# EAGLE library part CY7C1059DV33 (library memory-sram)
Source: CYPRESS cy7c1059dv33_8.pdf
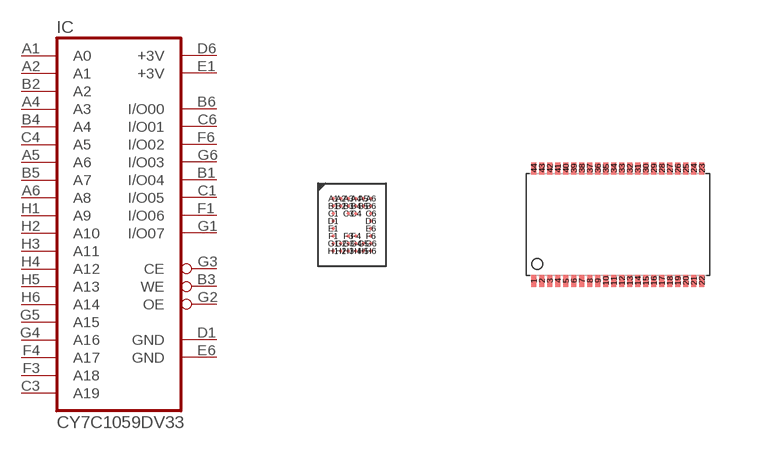
[diagram p2: symbol with the pads of FBGA36; footprints FBGA36, TSOPII-Z44]

Designator prefix IC

## CY7C1059DV33-10BAXI  [FBGA36]
A1  A0  in
A2  A1  in
A4  A3  in
A5  A6  in
A6  A8  in
B1  I/O04
B2  A2  in
B3  WE  in
B4  A4  in
B5  A7  in
B6  I/O00
C1  I/O05
C3  A19  in
C4  A5  in
C6  I/O01
D1  GND  pwr
D6  +3V  pwr
E1  +3V  pwr
E6  GND  pwr
F1  I/O06
F3  A18  in
F4  A17  in
F6  I/O02
G1  I/O07
G2  OE  in
G3  CE  in
G4  A16  in
G5  A15  in
G6  I/O03
H1  A9  in
H2  A10  in
H3  A11  in
H4  A12  in
H5  A13  in
H6  A14  in

## CY7C1059DV33-10ZSXI  [TSOPII-Z44]
3  A0  in
4  A1  in
5  A2  in
6  A3  in
7  A4  in
8  CE  in
9  I/O00
10  I/O01
11  +3V  pwr
12  GND  pwr
13  I/O02
14  I/O03
15  WE  in
16  A5  in
17  A6  in
18  A7  in
19  A8  in
20  A9  in
25  A19  in
26  A10  in
27  A11  in
28  A12  in
29  A13  in
30  A14  in
31  I/O04
32  I/O05
33  +3V  pwr
34  GND  pwr
35  I/O06
36  I/O07
37  OE  in
38  A15  in
39  A16  in
40  A17  in
41  A18  in

## Footprint FBGA36 (pad centres in mm)
36-Ball FBGA (7.00 mm x 8.5 mm x 1.2 mm) (51-85105) Source: CYPRESS cy7c1059dv33_8.pdf
smd 0.075 x 0.075: A1 -0.469,0.656; A2 -0.281,0.656; A3 -0.094,0.656; A4 0.094,0.656; A5 0.281,0.656; A6 0.469,0.656; B1 -0.469,0.469; B2 -0.281,0.469; B3 -0.094,0.469; B4 0.094,0.469; B5 0.281,0.469; B6 0.469,0.469; C1 -0.469,0.281; C3 -0.094,0.281; C4 0.094,0.281; C6 0.469,0.281; D1 -0.469,0.094; D6 0.469,0.094; E1 -0.469,-0.094; E6 0.469,-0.094; F1 -0.469,-0.281; F3 -0.094,-0.281; F4 0.094,-0.281; F6 0.469,-0.281; G1 -0.469,-0.469; G2 -0.281,-0.469; G3 -0.094,-0.469; G4 0.094,-0.469; G5 0.281,-0.469; G6 0.469,-0.469; H1 -0.469,-0.656; H2 -0.281,-0.656; H3 -0.094,-0.656; H4 0.094,-0.656; H5 0.281,-0.656; H6 0.469,-0.656

## Footprint TSOPII-Z44 (pad centres in mm)
44 PIN TSOP II Z44 Source: CYPRESS cy7c1049cv33_8.pdf
smd 0.125 x 0.3: 1 -2.1,-1.407; 2 -1.9,-1.407; 3 -1.7,-1.407; 4 -1.5,-1.407; 5 -1.3,-1.407; 6 -1.1,-1.407; 7 -0.9,-1.407; 8 -0.7,-1.407; 9 -0.5,-1.407; 10 -0.3,-1.407; 11 -0.1,-1.407; 12 0.1,-1.407; 13 0.3,-1.407; 14 0.5,-1.407; 15 0.7,-1.407; 16 0.9,-1.407; 17 1.1,-1.407; 18 1.3,-1.407; 19 1.5,-1.407; 20 1.7,-1.407; 21 1.9,-1.407; 22 2.1,-1.407; 23 2.1,1.407; 24 1.9,1.407; 25 1.7,1.407; 26 1.5,1.407; 27 1.3,1.407; 28 1.1,1.407; 29 0.9,1.407; 30 0.7,1.407; 31 0.5,1.407; 32 0.3,1.407; 33 0.1,1.407; 34 -0.1,1.407; 35 -0.3,1.407; 36 -0.5,1.407; 37 -0.7,1.407; 38 -0.9,1.407; 39 -1.1,1.407; 40 -1.3,1.407; 41 -1.5,1.407; 42 -1.7,1.407; 43 -1.9,1.407; 44 -2.1,1.407